# EAGLE library part DC-DC_DUAL (library _mtvl.power)
Isolated brick DC-DC converter dual output
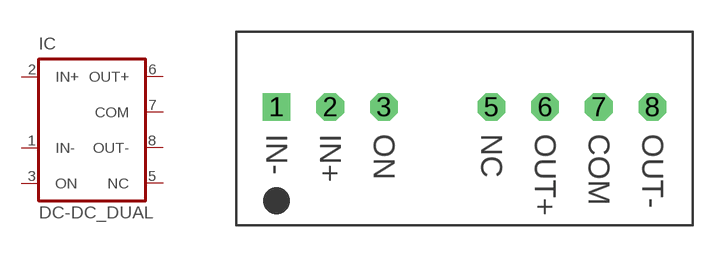
[diagram p9: symbol with the pads of AM3GH-Z; footprint AM3GH-Z]

Designator prefix IC

## DC-DC_DUAL-AM3GH-Z  [AM3GH-Z]
1  IN-
2  IN+
3  ON
5  NC
6  OUT+
7  COM
8  OUT-

## Footprint AM3GH-Z (pad centres in mm)
AIMTEC AM3GH-Z Series DC-DC converter http://www.aimtec.com/site/Aimtec/files/Datasheet/HighResolution/AM3GH-Z.pdf
drill 0.8 square: 1 -8.89,0
drill 0.8 octagon: 2 -6.35,0; 3 -3.81,0; 5 1.27,0; 6 3.81,0; 7 6.35,0; 8 8.89,0